# Altium integrated library LTC3260.IntLib: 3 symbols
Pins are listed as number, name and electrical type; pins without a type are passive.

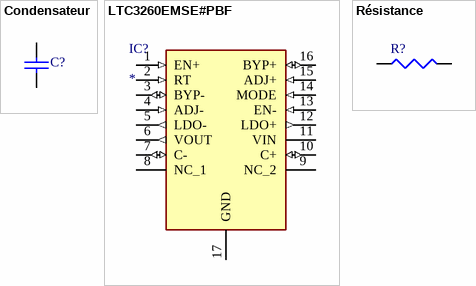
[diagram p0: symbols Condensateur to Résistance]

## Condensateur
designator C?
Condensateur; Supplier: Farnell; Designer: ECAM 2004
simulation model Model Name (Model Description)
footprint CAPR2.54-5.1x3.2 (Capacitor, Ceramic, Thru-Hole, Dipped Radial; Body 5.1 x 3.2 mm (WxT) Pin Spacing 2.54 mm (typ))
pins: 1, 2

## LTC3260EMSE#PBF
designator IC?
Integrated Circuit; Manufacturer_Name: Linear Technology; Manufacturer_Part_Number: LTC3260EMSE#PBF; Datasheet Link: http://cds.linear.com/docs/en/datasheet/3260fa.pdf; Height: 1.1mm; Mouser Part Number: 584-LTC3260EMSE#PBF; Mouser Price/Stock: https://www.mouser.com/Search/Refine.aspx?Keyword=584-LTC3260EMSE%23PBF; RS Part Number: 8516768P; RS Price/Stock: http://uk.rs-online.com/web/p/products/8516768P
footprint SOP50P490X110-17N
footprint *MSOP-16_MSE
pins: 1 EN+ (in), 2 RT (in), 3 BYP- (io), 4 ADJ- (in), 5 LDO- (out), 6 VOUT (out), 7 C- (io), 8 NC_1, 9 NC_2, 10 C+ (io), 11 VIN (power), 12 LDO+ (out), 13 EN- (in), 14 MODE (in), 15 ADJ+ (in), 16 BYP+ (io), 17 GND (power)

## Résistance
designator R?
Résistance standard; Designer: ECAM 2005; Type: Résistance standard
simulation model Model Name (Model Description)
footprint AXIAL-0.4 (Resistor; 2 Leads)
pins: 1, 2
3 alternate drawings of the same symbol